# EAGLE library part KLEMME_5-3 (library e-klemmen)
Klemme 5 3
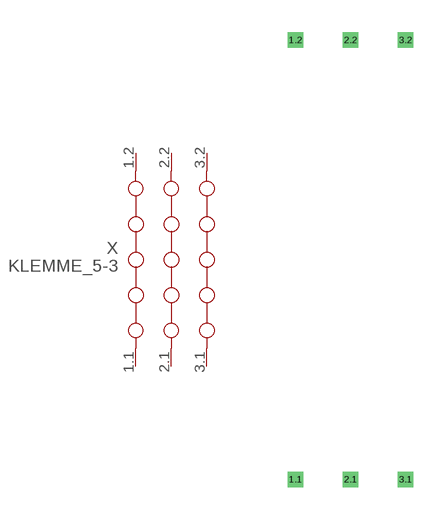
[diagram p3: symbol with the pads of KLEMME_5-3; footprint KLEMME_5-3]

Designator prefix X

## KLEMME_5-3  [KLEMME_5-3]
1.1  1.1  pas
1.2  1.2  pas
2.1  2.1  pas
2.2  2.2  pas
3.1  3.1  pas
3.2  3.2  pas

## Footprint KLEMME_5-3 (pad centres in mm)
Dummy
drill 0.2 pad 0.6 square: 1.1 -2.54,-10.16; 1.2 -2.54,10.16; 2.1 0,-10.16; 2.2 0,10.16; 3.1 2.54,-10.16; 3.2 2.54,10.16